# EAGLE library part X__JST_SH_STEHEND_6 (library ..SMD)
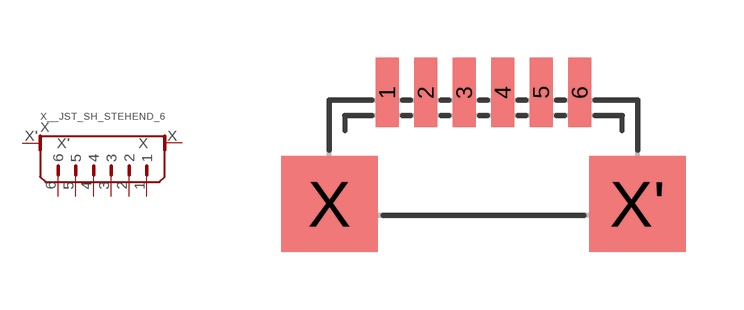
[diagram p375: symbol with the pads of JST_SH_STEHEND_6; footprint JST_SH_STEHEND_6]

Designator prefix X

## X__JST_SH_STEHEND_6  [JST_SH_STEHEND_6]
1  1
2  2
3  3
4  4
5  5
6  6
X  X
X'  X'

## Footprint JST_SH_STEHEND_6 (pad centres in mm)
smd 0.6 x 1.8: 1 0,0; 2 1,0; 3 2,0; 4 3,0; 5 4,0; 6 5,0
smd 2.5 x 2.5: X -1.5,-2.9; X' 6.5,-2.9